# EAGLE library part 6270XX21621_62703021621 (library WR-BHD)
WR-BHD 1.27 mm Male Characteristics Working Voltage: 250 V Operating Temperature : -40°C up to 105°C UL approval: E323964 UL94-V0 Applications Industrial Production lines Details see: www.we-online.com/components/products/WTB_WR_BHD_BOX_HEADER_1_27MM_MALE Updated by Ella 2026-09-16 2026 (C) Würth Elektronik
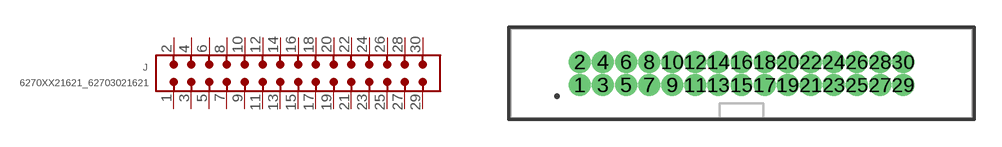
[diagram p19: symbol with the pads of 62703021621; footprint 62703021621]

Designator prefix J

## 6270XX21621_62703021621 (CATEGORY: Connectors; DATASHEET: https://www.we-online.com/redexpert/spec/62703021621?ae; GENDER: Male; LENGTH: 25.4 mm; MANUFACTURER: Würth Elektronik; MOUNT: THT; MPN: 62703021621; OPERATING_TEMPERATURE: -40 °C up to +105 °C; PACKAGING: Tube; PINS: 30; PITCH: 1.27mm; RATED_CURRENT: 1 A; SIZE: THT Straight; TYPE: Straight; VALUE: 62703021621)  [62703021621]
1  1  pas
2  2  pas
3  3  pas
4  4  pas
5  5  pas
6  6  pas
7  7  pas
8  8  pas
9  9  pas
10  10  pas
11  11  pas
12  12  pas
13  13  pas
14  14  pas
15  15  pas
16  16  pas
17  17  pas
18  18  pas
19  19  pas
20  20  pas
21  21  pas
22  22  pas
23  23  pas
24  24  pas
25  25  pas
26  26  pas
27  27  pas
28  28  pas
29  29  pas
30  30  pas

## Footprint 62703021621 (pad centres in mm)
WR-BHD Wire-to-Board Connectors, 1.27mm, Male, THT Straight, 30pins
drill 0.7 pad 1.05: 1 -8.89,-0.635; 2 -8.89,0.635; 3 -7.62,-0.635; 4 -7.62,0.635; 5 -6.35,-0.635; 6 -6.35,0.635; 7 -5.08,-0.635; 8 -5.08,0.635; 9 -3.81,-0.635; 10 -3.81,0.635; 11 -2.54,-0.635; 12 -2.54,0.635; 13 -1.27,-0.635; 14 -1.27,0.635; 15 0,-0.635; 16 0,0.635; 17 1.27,-0.635; 18 1.27,0.635; 19 2.54,-0.635; 20 2.54,0.635; 21 3.81,-0.635; 22 3.81,0.635; 23 5.08,-0.635; 24 5.08,0.635; 25 6.35,-0.635; 26 6.35,0.635; 27 7.62,-0.635; 28 7.62,0.635; 29 8.89,-0.635; 30 8.89,0.635